# EAGLE library part FMS6400 (library FMS64XX (contains all FMS derivatives))
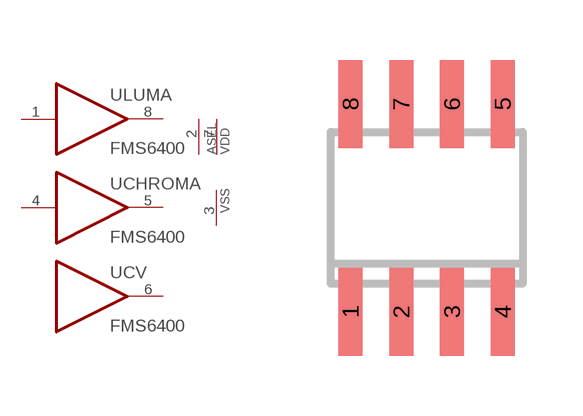
[diagram p0: symbol with the pads of SOIC8; footprint SOIC8]

Designator prefix -; gates LUMA=BUFFER CHROMA=BUFFER CV=BUFFERNOIN G$1=PWRN_ASEL

## FMS6400  [SOIC8]
1  LUMA:I
2  G$1:ASEL  pwr
3  G$1:VSS  pwr
4  CHROMA:I
5  CHROMA:O  out
6  CV:O  out
7  G$1:VDD  pwr
8  LUMA:O  out

## Footprint SOIC8 (pad centres in mm)
Small Outline IC
smd 0.6 x 2.2: 1 -1.905,-2.6; 2 -0.635,-2.6; 3 0.635,-2.6; 4 1.905,-2.6; 5 1.905,2.6; 6 0.635,2.6; 7 -0.635,2.6; 8 -1.905,2.6